# EAGLE library part MICROMATCH_6POS (library Traficon)
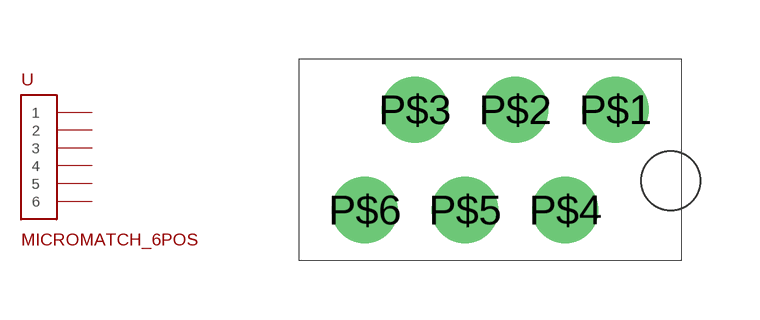
[diagram p28: symbol with the pads of MICROMATCH_6POS; footprint MICROMATCH_6POS]

Designator prefix -

## MICROMATCH_6POS  [MICROMATCH_6POS]
P$1  1
P$2  3
P$3  5
P$4  2
P$5  4
P$6  6

## Footprint MICROMATCH_6POS (pad centres in mm)
drill 0.8 pad 1.676 round: P$1 0,0; P$2 -2.54,0; P$3 -5.08,0; P$4 -1.27,-2.54; P$5 -3.81,-2.54; P$6 -6.35,-2.54
hole 1.5 at 1.4,-1.8